# Altium footprint library WE-PD.PcbLib: 17 footprints (part 1 of 2)
Each footprint in its own frame and in the unit in brackets; x right, y up, seen from the top. Pads: shape width x height; smd on the part's side, far side on the other; paste and mask are expansions set on the pad; w line width, h text height; cw(c..) or ccw(c..) is an arc to the next point about the centre after c.
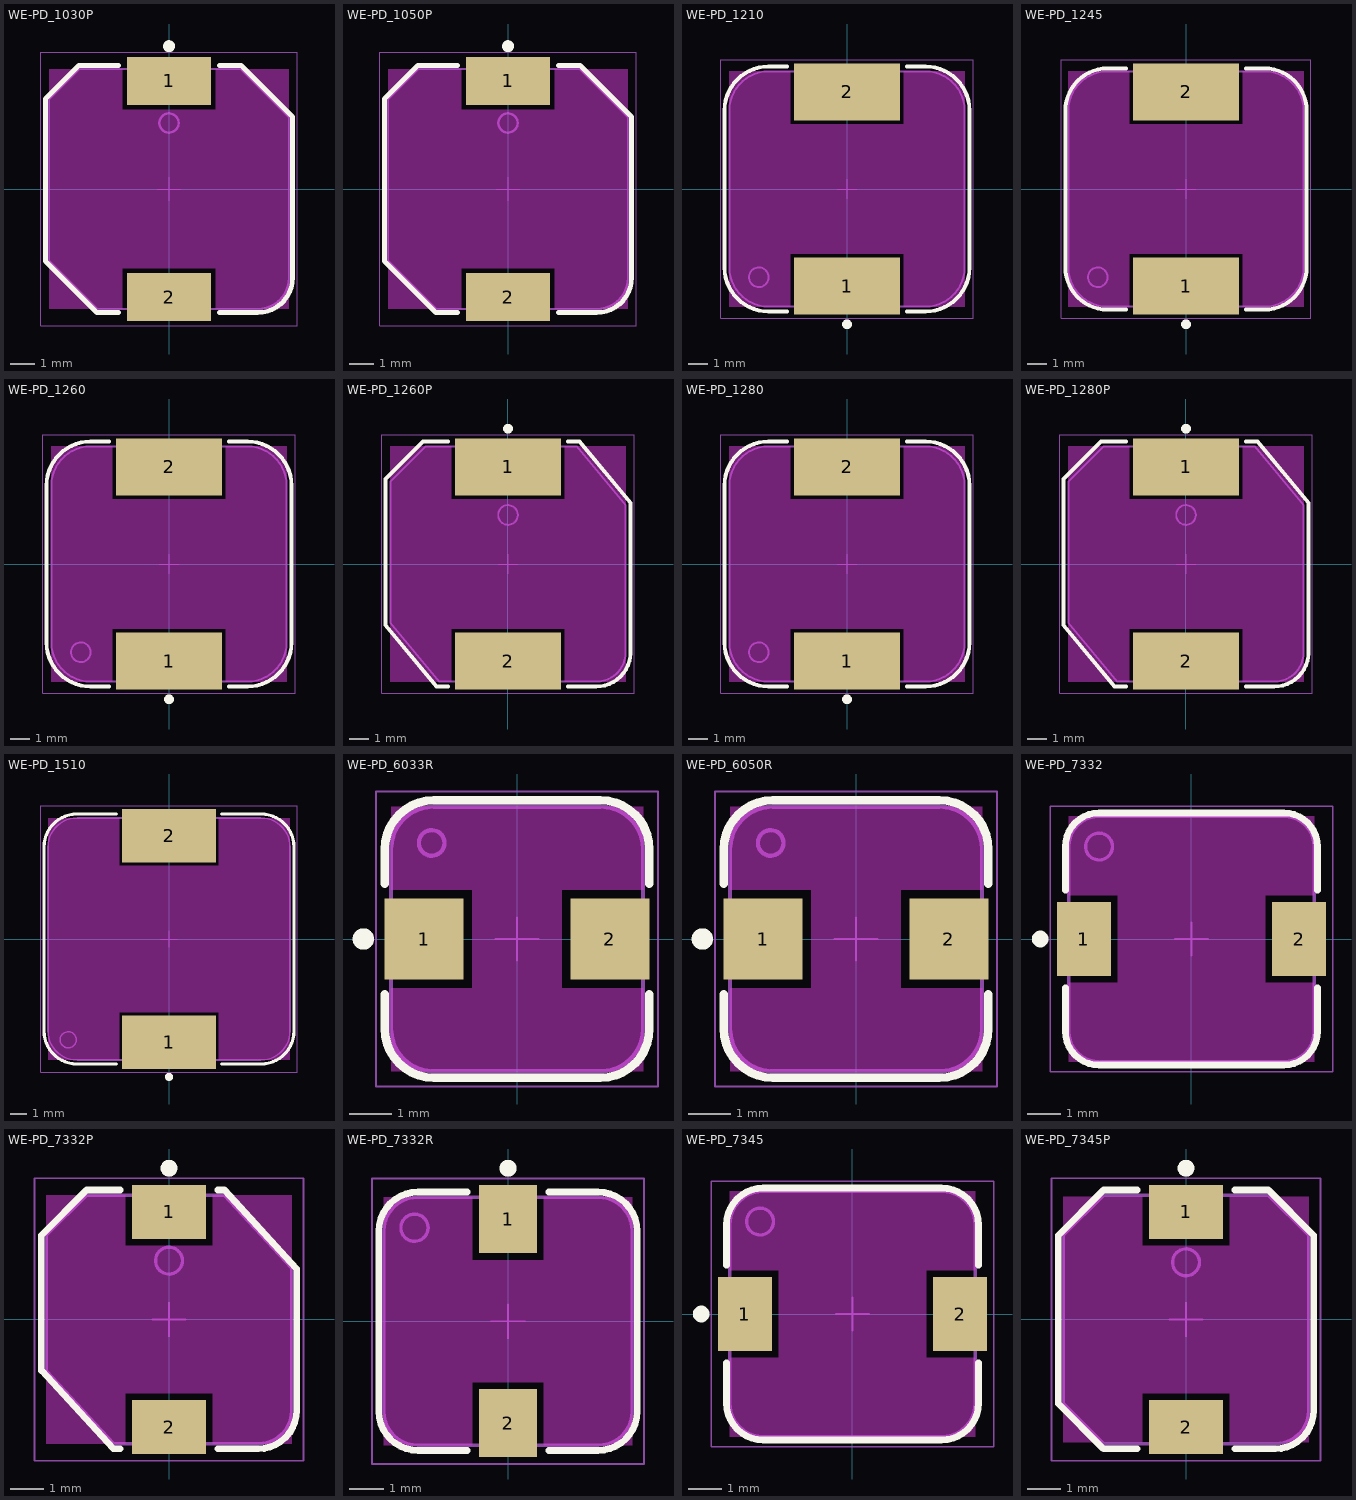
[diagram p0: the footprints below, top view; thin cyan lines are the x and y axes]

## WE-PD_1030P [mm] "SMD Shielded Power Inductor, 2-leads, body 10x10mm"
height 3
pads (2):
  rect 3.5x2 smd: 1(0,4.5) 2(0,-4.5)
Top Layer keep-out:
  region: 5,-5 1.95,-5 1.95,-3.3 -1.95,-3.3 -1.95,-5 -5,-5 -5,5 -1.95,5 -1.95,3.3 1.95,3.3 1.95,5 5,5
Top Overlay:
  circle w0.25: c0,5.95 r0.125
  lines w0.2: -2.1,-5.15 -3,-5.15 -5.15,-3 -5.15,3.75 -3.75,5.15 -2.1,5.15 ; 2.1,-5.15 3.7,-5.15 ccw(c3.7,-3.7) 5.15,-3.7 5.15,3 3,5.15 2.1,5.15
Top Designator:
  text ".Designator" at -7.498,-0.5 h1.5
Top Component Outline:
  circle w0.1: c0,2.75 r0.4
  lines w0.1: -5,-3 -5,3.75 -3.75,5 3,5 5,3 5,-3.7 cw(c3.7,-3.7) 3.7,-5 -3,-5 -5,-3
Top 3D Body:
  circle w0.1: c0,2.75 r0.4
  lines w0.1: -5,-3 -3,-5 3.7,-5 ccw(c3.7,-3.7) 5,-3.7 5,3 3,5 -3.75,5 -5,3.75 -5,-3
Top Courtyard:
  lines w0.05: -0.5,0 0.5,0 ; 0,-0.5 0,0.5 ; -5.35,-5.7 -5.35,5.7 5.35,5.7 5.35,-5.7 -5.35,-5.7
3D body "WE-PD_1030_m-base_7447713xx.stp": height 2.85, standoff 0, extent -5,-5 5,5

## WE-PD_1050P [mm] "SMD Shielded Power Inductor, 2-leads, body 10x10mm"
height 5
pads (2):
  rect 3.5x2 smd: 1(0,4.5) 2(0,-4.5)
Top Layer keep-out:
  region: 5,-5 1.95,-5 1.95,-3.3 -1.95,-3.3 -1.95,-5 -5,-5 -5,5 -1.95,5 -1.95,3.3 1.95,3.3 1.95,5 5,5
Top Overlay:
  circle w0.25: c0,5.95 r0.125
  lines w0.2: -2.1,-5.15 -3,-5.15 -5.15,-3 -5.15,3.75 -3.75,5.15 -2.1,5.15 ; 2.1,-5.15 3.7,-5.15 ccw(c3.7,-3.7) 5.15,-3.7 5.15,3 3,5.15 2.1,5.15
Top Designator:
  text ".Designator" at -7.498,-0.5 h1.5
Top Component Outline:
  circle w0.1: c0,2.75 r0.4
  lines w0.1: -5,-3 -3,-5 3.7,-5 ccw(c3.7,-3.7) 5,-3.7 5,3 3,5 -3.75,5 -5,3.75 -5,-3
Top 3D Body:
  circle w0.1: c0,2.75 r0.4
  lines w0.1: -5,-3 -5,3.75 -3.75,5 3,5 5,3 5,-3.7 cw(c3.7,-3.7) 3.7,-5 -3,-5 -5,-3
Top Courtyard:
  lines w0.05: -0.5,0 0.5,0 ; 0,-0.5 0,0.5 ; -5.35,-5.7 5.35,-5.7 5.35,5.7 -5.35,5.7 -5.35,-5.7
3D body "WE-PD_1050_m-base_7447714xx.stp": height 4.79, standoff -0.01, extent -5,-5 5,5

## WE-PD_1210 [mm] "SMT Shielded Power Inductor, 2-leads, body 12x12mm"
height 10
pads (2):
  rect 5.4x2.9 smd: 1(0,-4.95) 2(0,4.95)
Top Layer keep-out:
  region: -6,6 -2.9,6 -2.9,3.3 2.9,3.3 2.9,6 6,6 6,-6 2.9,-6 2.9,-3.3 -2.9,-3.3 -2.9,-6 -6,-6
Top Overlay:
  circle w0.25: c0,-6.9 r0.125
  lines w0.2: -3.05,-6.25 -4,-6.25 cw(c-4,-4) -6.25,-4 -6.25,4 cw(c-4,4) -4,6.25 -3.05,6.25 ; 3.05,-6.25 4,-6.25 ccw(c4,-4) 6.25,-4 6.25,4 ccw(c4,4) 4,6.25 3.05,6.25
Top Designator:
  text ".Designator" at -7.498,-0.5 h1.5
Top Component Outline:
  circle w0.1: c-4.5,-4.5 r0.5
  lines w0.1: -6,-4 ccw(c-4,-4) -4,-6 4,-6 ccw(c4,-4) 6,-4 6,4 ccw(c4,4) 4,6 -4,6 ccw(c-4,4) -6,4 -6,-4
Top 3D Body:
  circle w0.1: c-4.5,-4.5 r0.5
  lines w0.1: -6,-4 ccw(c-4,-4) -4,-6 4,-6 ccw(c4,-4) 6,-4 6,4 ccw(c4,4) 4,6 -4,6 ccw(c-4,4) -6,4 -6,-4
Top Courtyard:
  lines w0.05: -0.5,0 0.5,0 ; 0,-0.5 0,0.5 ; -6.45,-6.6 -6.45,6.6 6.45,6.6 6.45,-6.6 -6.45,-6.6
3D body "WE-PD_1210_m-base_7447709xx.stp": height 9.46, standoff 0, extent -6,-6 6,6

## WE-PD_1245 [mm] "SMT Shielded Power Inductor, 2-leads, body 12x12mm"
height 4.5
pads (2):
  rect 5.4x2.9 smd: 1(0,-4.95) 2(0,4.95)
Top Layer keep-out:
  region: -6,6 -2.9,6 -2.9,3.3 2.9,3.3 2.9,6 6,6 6,-6 2.9,-6 2.9,-3.3 -2.9,-3.3 -2.9,-6 -6,-6
Top Overlay:
  circle w0.25: c0,-6.9 r0.125
  lines w0.2: -3.05,-6.15 -4,-6.15 cw(c-4,-4) -6.15,-4 -6.15,4 cw(c-4,4) -4,6.15 -3.05,6.15 ; 3.05,-6.15 4,-6.15 ccw(c4,-4) 6.15,-4 6.15,4 ccw(c4,4) 4,6.15 3.05,6.15
Top Designator:
  text ".Designator" at -7.498,-0.5 h1.5
Top Component Outline:
  circle w0.1: c-4.5,-4.5 r0.5
  lines w0.1: -6,-4 ccw(c-4,-4) -4,-6 4,-6 ccw(c4,-4) 6,-4 6,4 ccw(c4,4) 4,6 -4,6 ccw(c-4,4) -6,4 -6,-4
Top 3D Body:
  circle w0.1: c-4.5,-4.5 r0.5
  lines w0.1: -6,-4 ccw(c-4,-4) -4,-6 4,-6 ccw(c4,-4) 6,-4 6,4 ccw(c4,4) 4,6 -4,6 ccw(c-4,4) -6,4 -6,-4
Top Courtyard:
  lines w0.05: -0.5,0 0.5,0 ; 0,-0.5 0,0.5 ; -6.35,-6.6 -6.35,6.6 6.35,6.6 6.35,-6.6 -6.35,-6.6
3D body "WE-PD_1245_m-base_7447715xx.stp": height 3.96, standoff 0, extent -6,-6 6,6

## WE-PD_1260 [mm] "SMT Shielded Power Inductor, 2-leads, body 12x12mm"
height 6
pads (2):
  rect 5.4x2.9 smd: 1(0,-4.95) 2(0,4.95)
Top Layer keep-out:
  region: -6,6 -2.9,6 -2.9,3.3 2.9,3.3 2.9,6 6,6 6,-6 2.9,-6 2.9,-3.3 -2.9,-3.3 -2.9,-6 -6,-6
Top Overlay:
  circle w0.25: c0,-6.9 r0.125
  lines w0.2: -3.05,-6.25 -4,-6.25 cw(c-4,-4) -6.25,-4 -6.25,4 cw(c-4,4) -4,6.25 -3.05,6.25 ; 3.05,-6.25 4,-6.25 ccw(c4,-4) 6.25,-4 6.25,4 ccw(c4,4) 4,6.25 3.05,6.25
Top Designator:
  text ".Designator" at -7.498,-0.5 h1.5
Top Component Outline:
  circle w0.1: c-4.5,-4.5 r0.5
  lines w0.1: -6,-4 ccw(c-4,-4) -4,-6 4,-6 ccw(c4,-4) 6,-4 6,4 ccw(c4,4) 4,6 -4,6 ccw(c-4,4) -6,4 -6,-4
Top 3D Body:
  circle w0.1: c-4.5,-4.5 r0.5
  lines w0.1: -6,-4 ccw(c-4,-4) -4,-6 4,-6 ccw(c4,-4) 6,-4 6,4 ccw(c4,4) 4,6 -4,6 ccw(c-4,4) -6,4 -6,-4
Top Courtyard:
  lines w0.05: -0.5,0 0.5,0 ; 0,-0.5 0,0.5 ; -6.45,-6.6 6.45,-6.6 6.45,6.6 -6.45,6.6 -6.45,-6.6
3D body "WE-PD_1260_m-base_744771xxx.stp": height 5.66, standoff 0, extent -6,-6 6,6

## WE-PD_1260P [mm] "SMT Shielded Power Inductor, 2-leads, body 12x12mm"
height 6
pads (2):
  rect 5.4x2.9 smd: 1(0,4.95) 2(0,-4.95)
Top Layer keep-out:
  region: -6,6 -2.9,6 -2.9,3.3 2.9,3.3 2.9,6 6,6 6,-6 2.9,-6 2.9,-3.3 -2.9,-3.3 -2.9,-6 -6,-6
Top Overlay:
  circle w0.25: c0,6.9 r0.125
  lines w0.2: -3.051,-6.251 -3.646,-6.251 -6.25,-3.125 -6.25,4.325 -4.325,6.25 -3.05,6.25 ; 3.05,-6.25 4.5,-6.25 ccw(c4.5,-4.5) 6.25,-4.5 ; 3.051,6.251 3.646,6.251 6.25,3.125 6.25,-4.625
Top Designator:
  text ".Designator" at -7.498,-0.5 h1.5
Top Component Outline:
  circle w0.1: c0,2.5 r0.5
  lines w0.1: -6,-3 -6,4.2 -4.2,6 3.5,6 6,3 6,-4.5 cw(c4.5,-4.5) 4.5,-6 -3.5,-6 -6,-3
Top 3D Body:
  circle w0.1: c0,2.5 r0.5
  lines w0.1: -6,-3 -3.5,-6 4.5,-6 ccw(c4.5,-4.5) 6,-4.5 6,3 3.5,6 -4.2,6 -6,4.2 -6,-3
Top Courtyard:
  lines w0.05: -0.5,0 0.5,0 ; 0,-0.5 0,0.5 ; -6.45,-6.6 -6.45,6.6 6.45,6.6 6.45,-6.6 -6.45,-6.6
3D body "7447706xxx_Rev1.0.stp": height 5.75, standoff 0.02, extent -5.989,-6.007 6.011,6.136

## WE-PD_1280 [mm] "SMT Shielded Power Inductor, 2-leads, body 12x12mm"
height 8
pads (2):
  rect 5.4x2.9 smd: 1(0,-4.95) 2(0,4.95)
Top Layer keep-out:
  region: -6,6 -2.9,6 -2.9,3.3 2.9,3.3 2.9,6 6,6 6,-6 2.9,-6 2.9,-3.3 -2.9,-3.3 -2.9,-6 -6,-6
Top Overlay:
  circle w0.25: c0,-6.9 r0.125
  lines w0.2: -3.05,-6.25 -4,-6.25 cw(c-4,-4) -6.25,-4 -6.25,4 cw(c-4,4) -4,6.25 -3.05,6.25 ; 3.05,-6.25 4,-6.25 ccw(c4,-4) 6.25,-4 6.25,4 ccw(c4,4) 4,6.25 3.05,6.25
Top Designator:
  text ".Designator" at -7.498,-0.5 h1.5
Top Component Outline:
  circle w0.1: c-4.5,-4.5 r0.5
  lines w0.1: -6,-4 ccw(c-4,-4) -4,-6 4,-6 ccw(c4,-4) 6,-4 6,4 ccw(c4,4) 4,6 -4,6 ccw(c-4,4) -6,4 -6,-4
Top 3D Body:
  circle w0.1: c-4.5,-4.5 r0.5
  lines w0.1: -6,-4 ccw(c-4,-4) -4,-6 4,-6 ccw(c4,-4) 6,-4 6,4 ccw(c4,4) 4,6 -4,6 ccw(c-4,4) -6,4 -6,-4
Top Courtyard:
  lines w0.05: -0.5,0 0.5,0 ; 0,-0.5 0,0.5 ; -6.45,-6.6 6.45,-6.6 6.45,6.6 -6.45,6.6 -6.45,-6.6
3D body "WE-PD_1280_m-base_744770xxx.stp": height 7.51, standoff 0.05, extent -6,-6 6,6

## WE-PD_1280P [mm] "SMT Shielded Power Inductor, body 12x12mm"
height 8
pads (2):
  rect 5.4x2.9 smd: 1(0,4.95) 2(0,-4.95)
Top Layer keep-out:
  region: -6,6 -2.9,6 -2.9,3.3 2.9,3.3 2.9,6 6,6 6,-6 2.9,-6 2.9,-3.3 -2.9,-3.3 -2.9,-6 -6,-6
Top Overlay:
  circle w0.25: c0,6.9 r0.125
  lines w0.2: -3.051,-6.251 -3.646,-6.251 -6.25,-3.125 -6.25,4.325 -4.325,6.25 -3.05,6.25 ; 3.05,-6.25 4.5,-6.25 ccw(c4.5,-4.5) 6.25,-4.5 ; 3.051,6.251 3.646,6.251 6.25,3.125 6.25,-4.625
Top Designator:
  text ".Designator" at -7.498,-0.5 h1.5
Top Component Outline:
  circle w0.1: c0,2.5 r0.5
  lines w0.1: -6,-3 -3.5,-6 4.5,-6 ccw(c4.5,-4.5) 6,-4.5 6,3 3.5,6 -4.2,6 -6,4.2 -6,-3
Top 3D Body:
  circle w0.1: c0,2.5 r0.5
  lines w0.1: -6,-3 -6,4.2 -4.2,6 3.5,6 6,3 6,-4.5 cw(c4.5,-4.5) 4.5,-6 -3.5,-6 -6,-3
Top Courtyard:
  lines w0.05: -0.5,0 0.5,0 ; 0,-0.5 0,0.5 ; -6.45,-6.6 6.45,-6.6 6.45,6.6 -6.45,6.6 -6.45,-6.6
3D body "7447707xxx_Rev1.0.stp": height 7.75, standoff -0.02, extent -5.989,-6.007 6.011,6.136

## WE-PD_1510 [mm] "SMT Shielded Power Inductor, 2-leads, body 15x15mm"
height 10
pads (2):
  rect 5.8x3.3 smd: 1(0,-6.4) 2(0,6.4)
Top Layer keep-out:
  region: -7.5,7.5 -3.1,7.5 -3.1,4.55 3.1,4.55 3.1,7.5 7.5,7.5 7.5,-7.5 3.1,-7.5 3.1,-4.55 -3.1,-4.55 -3.1,-7.5 -7.5,-7.5
Top Overlay:
  circle w0.25: c0,-8.55 r0.125
  lines w0.2: -7.75,-5.95 -7.75,5.7 cw(c-5.7,5.7) -5.7,7.75 -3.25,7.75 ; -7.75,-5.7 ccw(c-5.7,-5.7) -5.7,-7.75 -3.25,-7.75 ; 3.25,-7.75 5.7,-7.75 ccw(c5.7,-5.7) 7.75,-5.7 ; 3.25,7.75 5.7,7.75 cw(c5.7,5.7) 7.75,5.7 7.75,-5.95
Top Designator:
  text ".Designator" at -7.498,-0.5 h1.5
Top Component Outline:
  circle w0.1: c-6.25,-6.25 r0.5
  lines w0.1: 3.25,-7.5 5.7,-7.5 ; 5.7,-7.5 ccw(c5.7,-5.7) 7.5,-5.7 7.5,5.7 ccw(c5.7,5.7) 5.7,7.5 -5.7,7.5 ccw(c-5.7,5.7) -7.5,5.7 -7.5,-5.7 ccw(c-5.7,-5.7) -5.7,-7.5 5.7,-7.5
Top 3D Body:
  circle w0.1: c-6.25,-6.25 r0.5
  lines w0.1: 3.25,-7.5 5.7,-7.5 ; 5.7,-7.5 ccw(c5.7,-5.7) 7.5,-5.7 7.5,5.7 ccw(c5.7,5.7) 5.7,7.5 -5.7,7.5 ccw(c-5.7,5.7) -7.5,5.7 -7.5,-5.7 ccw(c-5.7,-5.7) -5.7,-7.5 5.7,-7.5
Top Courtyard:
  lines w0.05: -0.5,0 0.5,0 ; 0,-0.5 0,0.5 ; -7.95,-8.25 7.95,-8.25 7.95,8.25 -7.95,8.25 -7.95,-8.25
3D body "WE-PD_1510_7447704xxx.stp": height 9.5, standoff 0, extent -7.4,-7.402 7.4,7.4

## WE-PD_6033R [mm] "SMT Shielded Power Inductor, 2-leads, body 5.9x6.2mm"
height 3.3
pads (2):
  rect 1.85x1.9 smd: 1(-2.175,0) 2(2.175,0)
Top Layer keep-out:
  region: -2.95,-3.1 -2.95,-1.15 -1.05,-1.15 -1.05,1.15 -2.95,1.15 -2.95,3.1 2.95,3.1 2.95,1.15 1.05,1.15 1.05,-1.15 2.95,-1.15 2.95,-3.1
Top Overlay:
  circle w0.25: c-3.6,0 r0.125
  lines w0.2: -3.1,-1.3 -3.1,-2.1 ccw(c-1.95,-2.1) -1.95,-3.25 1.95,-3.25 ccw(c1.95,-2.1) 3.1,-2.1 3.1,-1.3 ; -3.1,1.3 -3.1,2.1 cw(c-1.95,2.1) -1.95,3.25 1.95,3.25 cw(c1.95,2.1) 3.1,2.1 3.1,1.3
Top Designator:
  text ".Designator" at -7.498,-0.5 h1.5
Top Component Outline:
  circle w0.1: c-2,2.25 r0.3
  lines w0.1: -2,-3.1 2,-3.1 ; -1.95,-3.1 cw(c-1.95,-2.1) -2.95,-2.1 -2.95,2.1 cw(c-1.95,2.1) -1.95,3.1 1.95,3.1 cw(c1.95,2.1) 2.95,2.1 2.95,-2.1 cw(c1.95,-2.1) 1.95,-3.1
Top 3D Body:
  circle w0.1: c-2,2.25 r0.3
  lines w0.1: -2,-3.1 2,-3.1 ; -1.95,-3.1 cw(c-1.95,-2.1) -2.95,-2.1 -2.95,2.1 cw(c-1.95,2.1) -1.95,3.1 1.95,3.1 cw(c1.95,2.1) 2.95,2.1 2.95,-2.1 cw(c1.95,-2.1) 1.95,-3.1
Top Courtyard:
  lines w0.05: -0.5,0 0.5,0 ; 0,-0.5 0,0.5 ; -3.3,-3.45 -3.3,3.45 3.3,3.45 3.3,-3.45 -3.3,-3.45
3D body "WE-PD_6033_p-base_7447785xx.stp": height 2.9, standoff 0, extent -2.95,-3.1 2.95,3.1

## WE-PD_6050R [mm] "SMT Shielded Power Inductor, 2-leads, body 5.9x6.2mm"
height 5.1
pads (2):
  rect 1.85x1.9 smd: 1(-2.175,0) 2(2.175,0)
Top Layer keep-out:
  region: -2.95,-3.1 -2.95,-1.15 -1.05,-1.15 -1.05,1.15 -2.95,1.15 -2.95,3.1 2.95,3.1 2.95,1.15 1.05,1.15 1.05,-1.15 2.95,-1.15 2.95,-3.1
Top Overlay:
  circle w0.25: c-3.6,0 r0.125
  lines w0.2: -3.1,-1.3 -3.1,-2.1 ccw(c-1.95,-2.1) -1.95,-3.25 1.95,-3.25 ccw(c1.95,-2.1) 3.1,-2.1 3.1,-1.3 ; -3.1,1.3 -3.1,2.1 cw(c-1.95,2.1) -1.95,3.25 1.95,3.25 cw(c1.95,2.1) 3.1,2.1 3.1,1.3
Top Designator:
  text ".Designator" at -7.498,-0.5 h1.5
Top Component Outline:
  circle w0.1: c-2,2.25 r0.3
  lines w0.1: -2,-3.1 2,-3.1 ; -1.95,-3.1 cw(c-1.95,-2.1) -2.95,-2.1 -2.95,2.1 cw(c-1.95,2.1) -1.95,3.1 1.95,3.1 cw(c1.95,2.1) 2.95,2.1 2.95,-2.1 cw(c1.95,-2.1) 1.95,-3.1
Top 3D Body:
  circle w0.1: c-2,2.25 r0.3
  lines w0.1: -2,-3.1 2,-3.1 ; -1.95,-3.1 cw(c-1.95,-2.1) -2.95,-2.1 -2.95,2.1 cw(c-1.95,2.1) -1.95,3.1 1.95,3.1 cw(c1.95,2.1) 2.95,2.1 2.95,-2.1 cw(c1.95,-2.1) 1.95,-3.1
Top Courtyard:
  lines w0.05: -0.5,0 0.5,0 ; 0,-0.5 0,0.5 ; -3.3,-3.45 -3.3,3.45 3.3,3.45 3.3,-3.45 -3.3,-3.45
3D body "WE-PD_6050_p-base_7447786xx.stp": height 4.9, standoff 0, extent -2.95,-3.1 2.95,3.1

## WE-PD_7332 [mm] "SMT Shielded Power Inductor, 2-leads, body 7.3x7.3mm"
height 3.2
pads (2):
  rect 1.6x2.2 smd: 1(-3.2,0) 2(3.2,0)
Top Layer keep-out:
  region: -3.65,-3.65 -3.65,-1.3 -2.2,-1.3 -2.2,1.3 -3.65,1.3 -3.65,3.65 3.65,3.65 3.65,1.3 2.2,1.3 2.2,-1.3 3.65,-1.3 3.65,-3.65
Top Overlay:
  circle w0.25: c-4.5,0 r0.125
  lines w0.2: -3.75,-1.45 -3.75,-2.75 ccw(c-2.75,-2.75) -2.75,-3.75 2.75,-3.75 ccw(c2.75,-2.75) 3.75,-2.75 3.75,-1.45 ; -3.75,1.45 -3.75,2.75 cw(c-2.75,2.75) -2.75,3.75 2.75,3.75 cw(c2.75,2.75) 3.75,2.75 3.75,1.45
Top Designator:
  text ".Designator" at -7.498,-0.5 h1.5
Top Component Outline:
  circle w0.1: c-2.75,2.75 r0.4
  lines w0.1: -2.75,-3.65 cw(c-2.75,-2.75) -3.65,-2.75 -3.65,2.75 cw(c-2.75,2.75) -2.75,3.65 2.75,3.65 cw(c2.75,2.75) 3.65,2.75 3.65,-2.75 cw(c2.75,-2.75) 2.75,-3.65 ; -2.7,-3.65 2.7,-3.65
Top 3D Body:
  circle w0.1: c-2.75,2.75 r0.4
  lines w0.1: -2.75,-3.65 cw(c-2.75,-2.75) -3.65,-2.75 -3.65,2.75 cw(c-2.75,2.75) -2.75,3.65 2.75,3.65 cw(c2.75,2.75) 3.65,2.75 3.65,-2.75 cw(c2.75,-2.75) 2.75,-3.65 ; -2.7,-3.65 2.7,-3.65
Top Courtyard:
  lines w0.05: -0.5,0 0.5,0 ; 0,-0.5 0,0.5 ; -4.2,-3.95 4.2,-3.95 4.2,3.95 -4.2,3.95 -4.2,-3.95
3D body "WE-PD_7332_m-base_744778xxx.stp": height 3.12, standoff 0, extent -3.65,-3.65 3.65,3.65

## WE-PD_7332P [mm] "SMT Shielded Power Inductor, 2-leads, body 7.3x7.4mm"
height 3.5
pads (2):
  rect 2.2x1.6 smd: 1(0,3.2) 2(0,-3.2)
Top Layer keep-out:
  region: 3.65,-3.7 1.3,-3.7 1.3,-2.2 -1.3,-2.2 -1.3,-3.7 -3.65,-3.7 -3.65,3.7 -1.3,3.7 -1.3,2.2 1.3,2.2 1.3,3.7 3.65,3.7
Top Overlay:
  circle w0.25: c0,4.5 r0.125
  lines w0.2: -3.8,-1.517 -3.8,2.5 -2.45,3.85 -1.45,3.85 ; -3.793,-1.511 -1.65,-3.85 -1.45,-3.85 ; 1.45,-3.85 2.65,-3.85 ccw(c2.65,-2.7) 3.8,-2.7 3.8,1.511 ; 1.45,3.85 1.65,3.85 3.793,1.511
Top Designator:
  text ".Designator" at -7.498,-0.5 h1.5
Top Component Outline:
  circle w0.1: c0,1.75 r0.4
  lines w0.1: -3.65,-1.517 -1.65,-3.7 2.65,-3.7 ccw(c2.65,-2.7) 3.65,-2.7 3.65,1.517 1.65,3.7 -2.45,3.7 -3.65,2.5 -3.65,-1.517
Top 3D Body:
  circle w0.1: c0,1.75 r0.4
  lines w0.1: -3.65,-1.517 -3.65,2.5 -2.45,3.7 1.65,3.7 3.65,1.517 3.65,-2.7 cw(c2.65,-2.7) 2.65,-3.7 -1.65,-3.7 -3.65,-1.517
Top Courtyard:
  lines w0.05: -0.5,0 0.5,0 ; 0,-0.5 0,0.5 ; -4,-4.2 -4,4.2 4,4.2 4,-4.2 -4,-4.2
3D body "WE-PD_7332_clip_7447783xxx.stp": height 3.25, standoff 0, extent -3.65,-3.65 3.65,3.65

## WE-PD_7332R [mm] "SMT Shielded Power Inductor, 2-leads, body 7.3x7.3mm"
height 3.2
pads (2):
  rect 1.7x2 smd: 1(0,3) 2(0,-3)
Top Layer keep-out:
  region: 3.65,-3.65 1.05,-3.65 1.05,-1.8 -1.05,-1.8 -1.05,-3.65 -3.65,-3.65 -3.65,3.65 -1.05,3.65 -1.05,1.8 1.05,1.8 1.05,3.65 3.65,3.65
Top Overlay:
  circle w0.25: c0,4.5 r0.125
  lines w0.2: -1.2,-3.8 -2.65,-3.8 cw(c-2.65,-2.65) -3.8,-2.65 -3.8,2.65 cw(c-2.65,2.65) -2.65,3.8 -1.2,3.8 ; 1.2,-3.8 2.65,-3.8 ccw(c2.65,-2.65) 3.8,-2.65 3.8,2.65 ccw(c2.65,2.65) 2.65,3.8 1.2,3.8
Top Designator:
  text ".Designator" at -7.498,-0.5 h1.5
Top Component Outline:
  circle w0.1: c-2.75,2.75 r0.4
  lines w0.1: -3.65,-2.65 ccw(c-2.65,-2.65) -2.65,-3.65 2.65,-3.65 ccw(c2.65,-2.65) 3.65,-2.65 3.65,2.65 ccw(c2.65,2.65) 2.65,3.65 -2.65,3.65 ccw(c-2.65,2.65) -3.65,2.65 -3.65,-2.65
Top 3D Body:
  circle w0.1: c-2.75,2.75 r0.4
  lines w0.1: -3.65,-2.65 ccw(c-2.65,-2.65) -2.65,-3.65 2.65,-3.65 ccw(c2.65,-2.65) 3.65,-2.65 3.65,2.65 ccw(c2.65,2.65) 2.65,3.65 -2.65,3.65 ccw(c-2.65,2.65) -3.65,2.65 -3.65,-2.65
Top Courtyard:
  lines w0.05: -0.5,0 0.5,0 ; 0,-0.5 0,0.5 ; -4,-4.2 -4,4.2 4,4.2 4,-4.2 -4,-4.2
3D body "WE-PD_7332_p-base_7447789xx.stp": height 3.22, standoff 0.02, extent -3.65,-3.65 3.65,3.65

## WE-PD_7345 [mm] "SMT Shielded Power Inductor, 2-leads, body 7.3x7.3mm"
height 4.5
pads (2):
  rect 1.6x2.2 smd: 1(-3.2,0) 2(3.2,0)
Top Layer keep-out:
  region: -3.65,-3.65 -3.65,-1.3 -2.2,-1.3 -2.2,1.3 -3.65,1.3 -3.65,3.65 3.65,3.65 3.65,1.3 2.2,1.3 2.2,-1.3 3.65,-1.3 3.65,-3.65
Top Overlay:
  circle w0.25: c-4.5,0 r0.125
  lines w0.2: -3.75,-1.45 -3.75,-2.65 ccw(c-2.65,-2.65) -2.65,-3.75 2.65,-3.75 ccw(c2.65,-2.65) 3.75,-2.65 3.75,-1.45 ; -3.75,1.45 -3.75,2.65 cw(c-2.65,2.65) -2.65,3.75 2.65,3.75 cw(c2.65,2.65) 3.75,2.65 3.75,1.45
Top Designator:
  text ".Designator" at -7.498,-0.5 h1.5
Top Component Outline:
  circle w0.1: c-2.75,2.75 r0.4
  lines w0.1: -3.65,-2.65 ccw(c-2.65,-2.65) -2.65,-3.65 2.65,-3.65 ccw(c2.65,-2.65) 3.65,-2.65 3.65,2.65 ccw(c2.65,2.65) 2.65,3.65 -2.65,3.65 ccw(c-2.65,2.65) -3.65,2.65 -3.65,-2.65
Top 3D Body:
  circle w0.1: c-2.75,2.75 r0.4
  lines w0.1: -3.65,-2.65 ccw(c-2.65,-2.65) -2.65,-3.65 2.65,-3.65 ccw(c2.65,-2.65) 3.65,-2.65 3.65,2.65 ccw(c2.65,2.65) 2.65,3.65 -2.65,3.65 ccw(c-2.65,2.65) -3.65,2.65 -3.65,-2.65
Top Courtyard:
  lines w0.05: -0.5,0 0.5,0 ; 0,-0.5 0,0.5 ; -4.2,-3.95 4.2,-3.95 4.2,3.95 -4.2,3.95 -4.2,-3.95
3D body "WE-PD_7345_m-base_744777xxx.stp": height 3.91, standoff -0.01, extent -3.65,-3.65 3.65,3.65

## WE-PD_7345P [mm] "SMT Shielded Power Inductor, 2-leads, body 7.3x7.4mm"
height 4.5
pads (2):
  rect 2.2x1.6 smd: 1(0,3.2) 2(0,-3.2)
Top Layer keep-out:
  region: 3.65,-3.65 1.3,-3.65 1.3,-2.2 -1.3,-2.2 -1.3,-3.65 -3.65,-3.65 -3.65,3.65 -1.3,3.65 -1.3,2.2 1.3,2.2 1.3,3.65 3.65,3.65
Top Overlay:
  circle w0.25: c0,4.5 r0.125
  lines w0.2: -1.45,-3.85 -2.45,-3.85 -3.8,-2.5 -3.8,2.5 -2.45,3.85 -1.45,3.85 ; 1.45,-3.85 2.65,-3.85 ccw(c2.65,-2.7) 3.8,-2.7 3.8,2.5 2.45,3.85 1.45,3.85
Top Designator:
  text ".Designator" at -7.498,-0.5 h1.5
Top Component Outline:
  circle w0.1: c0,1.7 r0.4
  lines w0.1: -3.65,-2.5 -3.65,2.5 -2.45,3.7 2.45,3.7 3.65,2.5 3.65,-2.7 cw(c2.65,-2.7) 2.65,-3.7 -2.45,-3.7 -3.65,-2.5
Top 3D Body:
  circle w0.1: c0,1.7 r0.4
  lines w0.1: -3.65,-2.5 -3.65,2.5 -2.45,3.7 2.45,3.7 3.65,2.5 3.65,-2.7 cw(c2.65,-2.7) 2.65,-3.7 -2.45,-3.7 -3.65,-2.5
Top Courtyard:
  lines w0.05: -0.5,0 0.5,0 ; 0,-0.5 0,0.5 ; -4,-4.2 -4,4.2 4,4.2 4,-4.2 -4,-4.2
3D body "WE-PD_7345_clip_7447773xxx.stp": height 4.22, standoff 0, extent -3.651,-3.65 3.651,3.65